# EAGLE library part LTC6803IG-3#PBF (library LTC6803IG-3#PBF)
Multicell Battery Stack Monitor Linear Technology LTC6803IG-3#PBF, Battery Charge Controller, 1.6mA, 44-Pin SSOP Source: Datasheet <http://cds.linear.com/docs/en/datasheet/680313fa.pdf>
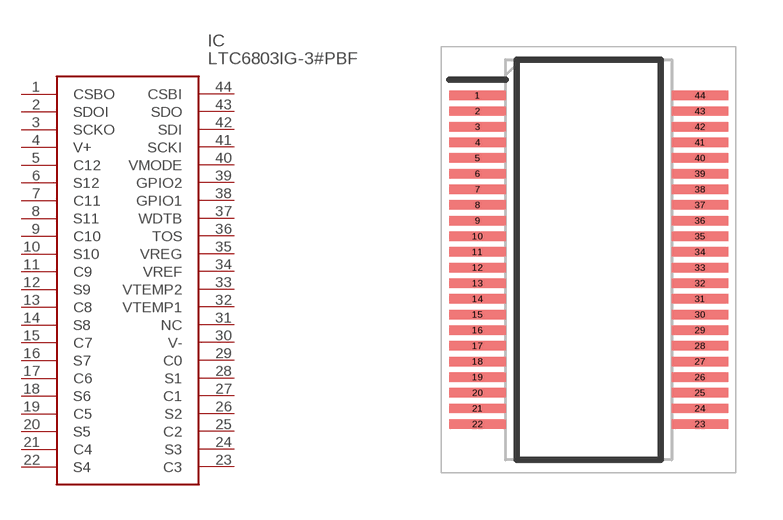
[diagram p0: symbol with the pads of SOP50P780X185-44N; footprint SOP50P780X185-44N]

Designator prefix IC

## LTC6803IG-3#PBF (Arrow_Part_Number: LTC6803IG-3#PBF; Arrow_Price-Stock: https://www.arrow.com/en/products/ltc6803ig-3pbf/linear-technology; Description: Multicell Battery Stack Monitor Linear Technology LTC6803IG-3#PBF, Battery Charge Controller, 1.6mA, 44-Pin SSOP; Height: 1.85mm; Manufacturer_Name: Linear Technology; Manufacturer_Part_Number: LTC6803IG-3#PBF; Mouser_Part_Number: 584-LTC6803IG-3#PBF; Mouser_Price-Stock: https://www.mouser.co.uk/ProductDetail/Analog-Devices-Linear-Technology/LTC6803IG-3PBF?qs=hVkxg5c3xu8Q%2FSc4ePVcZg%3D%3D)  [SOP50P780X185-44N]
1  CSBO
2  SDOI
3  SCKO
4  V+
5  C12
6  S12
7  C11
8  S11
9  C10
10  S10
11  C9
12  S9
13  C8
14  S8
15  C7
16  S7
17  C6
18  S6
19  C5
20  S5
21  C4
22  S4
23  C3
24  S3
25  C2
26  S2
27  C1
28  S1
29  C0
30  V-
31  NC  nc
32  VTEMP1
33  VTEMP2
34  VREF
35  VREG
36  TOS
37  WDTB
38  GPIO1
39  GPIO2
40  VMODE
41  SCKI
42  SDI
43  SDO
44  CSBI

## Footprint SOP50P780X185-44N (pad centres in mm)
G-Package - 44-Lead PSSOP
smd 1.8 x 0.3: 1 -3.55,5.25; 2 -3.55,4.75; 3 -3.55,4.25; 4 -3.55,3.75; 5 -3.55,3.25; 6 -3.55,2.75; 7 -3.55,2.25; 8 -3.55,1.75; 9 -3.55,1.25; 10 -3.55,0.75; 11 -3.55,0.25; 12 -3.55,-0.25; 13 -3.55,-0.75; 14 -3.55,-1.25; 15 -3.55,-1.75; 16 -3.55,-2.25; 17 -3.55,-2.75; 18 -3.55,-3.25; 19 -3.55,-3.75; 20 -3.55,-4.25; 21 -3.55,-4.75; 22 -3.55,-5.25; 23 3.55,-5.25; 24 3.55,-4.75; 25 3.55,-4.25; 26 3.55,-3.75; 27 3.55,-3.25; 28 3.55,-2.75; 29 3.55,-2.25; 30 3.55,-1.75; 31 3.55,-1.25; 32 3.55,-0.75; 33 3.55,-0.25; 34 3.55,0.25; 35 3.55,0.75; 36 3.55,1.25; 37 3.55,1.75; 38 3.55,2.25; 39 3.55,2.75; 40 3.55,3.25; 41 3.55,3.75; 42 3.55,4.25; 43 3.55,4.75; 44 3.55,5.25